# EAGLE library part ATTINY1634 (library bschulz)
ATtiny1634 8 bit AVR Microcontroller Features: Vcc: 1.8 ~ 5.5V Clock: Up to 16MHz, Internal 8MHz FRC, 32kHz RC Flash Memory: 16K SRAM: 1K EEPROM: 256B ADC: 10b, 12 port USART: Yes, x2 SPI: Yes I2C: Yes, slave only Notes: 2 analog comp. Digikey: ATTINY1634R-MURCT-ND (QFN) <https://www.digikey.com/product-detail/en/microchip-technology/ATTINY1634R-MUR/ATTINY1634R-MURCT-ND/3440781> ATTINY1634R-SU-ND (SOIC) <https://www.digikey.com/product-detail/en/ATTINY1634R-SU/ATTINY1634R-SU-ND/3128699/?itemSeq=272981030>
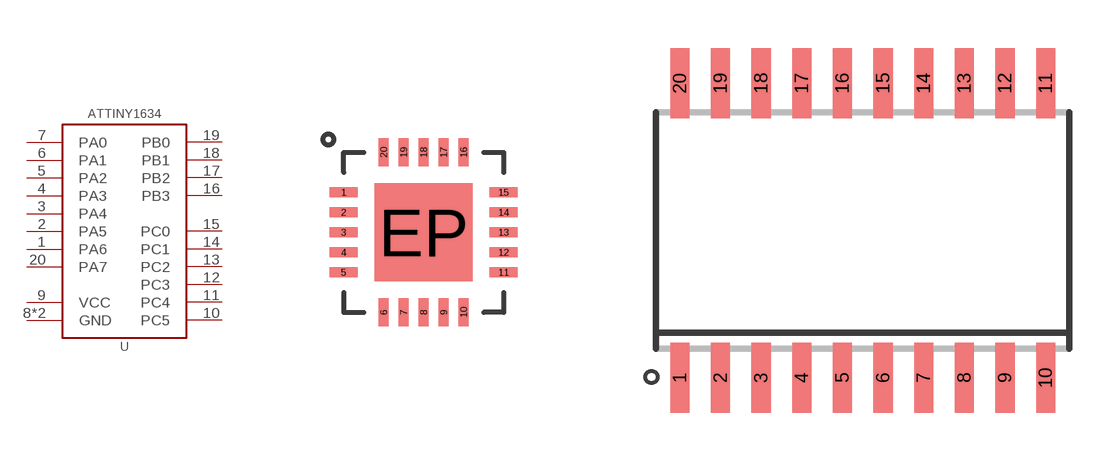
[diagram p59: symbol with the pads of QFN20; footprints QFN20, SO-20DW]

Designator prefix U

## ATTINY1634QFN (DIGIKEY: ATTINY1634-MURCT-ND; MF: Atmel; MPN: ATTINY1634-MUR)  [QFN20]
1  PA6
2  PA5
3  PA4
4  PA3
5  PA2
6  PA1
7  PA0
8  GND  pwr
9  VCC  pwr
10  PC5
11  PC4
12  PC3
13  PC2
14  PC1
15  PC0
16  PB3
17  PB2
18  PB1
19  PB0
20  PA7
EP  GND  pwr

## ATTINY1634SOIC (DIGIKEY: ATTINY1634-SURCT-ND; MF: Atmel; MPN: ATTINY1634-SUR)  [SO-20DW]
1  PB0
2  PA7
3  PA6
4  PA5
5  PA4
6  PA3
7  PA2
8  PA1
9  PA0
10  GND  pwr
11  VCC  pwr
12  PC5
13  PC4
14  PC3
15  PC2
16  PC1
17  PC0
18  PB3
19  PB2
20  PB1

## Footprint QFN20 (pad centres in mm)
QFN, 20 pos, 0.5mm pitch, 4x4mm body
smd 0.7 x 0.25: 1 -2.032,0.968; 2 -2.032,0.468; 3 -2.032,-0.032; 4 -2.032,-0.532; 5 -2.032,-1.032; 11 1.968,-1.032; 12 1.968,-0.532; 13 1.968,-0.032; 14 1.968,0.468; 15 1.968,0.968
smd 0.25 x 0.7: 6 -1.032,-2.032; 7 -0.532,-2.032; 8 -0.032,-2.032; 9 0.468,-2.032; 10 0.968,-2.032; 16 0.968,1.968; 17 0.468,1.968; 18 -0.032,1.968; 19 -0.532,1.968; 20 -1.032,1.968
smd 2.45 x 2.45: EP -0.032,-0.032

## Footprint SO-20DW (pad centres in mm)
Small Outline Integrated Circuit wide
smd 0.6 x 2.2: 1 -5.715,-4.6; 2 -4.445,-4.6; 3 -3.175,-4.6; 4 -1.905,-4.6; 5 -0.635,-4.6; 6 0.635,-4.6; 7 1.905,-4.6; 8 3.175,-4.6; 9 4.445,-4.6; 10 5.715,-4.6; 11 5.715,4.6; 12 4.445,4.6; 13 3.175,4.6; 14 1.905,4.6; 15 0.635,4.6; 16 -0.635,4.6; 17 -1.905,4.6; 18 -3.175,4.6; 19 -4.445,4.6; 20 -5.715,4.6